# Altium schematic symbol library AD8597.Schlib: 1 symbol
Pins are listed as number, name and electrical type; pins without a type are passive.

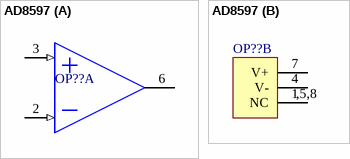
[diagram p0: symbol AD8597]

## AD8597
designator OP??
part A pins: 2 (in), 3 (in), 6
part B pins: 1 NC (power), 4 V- (power), 5 (power), 7 V+ (power), 8 (power)
part B text: ,5,8